# EAGLE library part 2199230-3 (library 2199230-3)
CONN FEMALE 67POS 0.020 GOLD
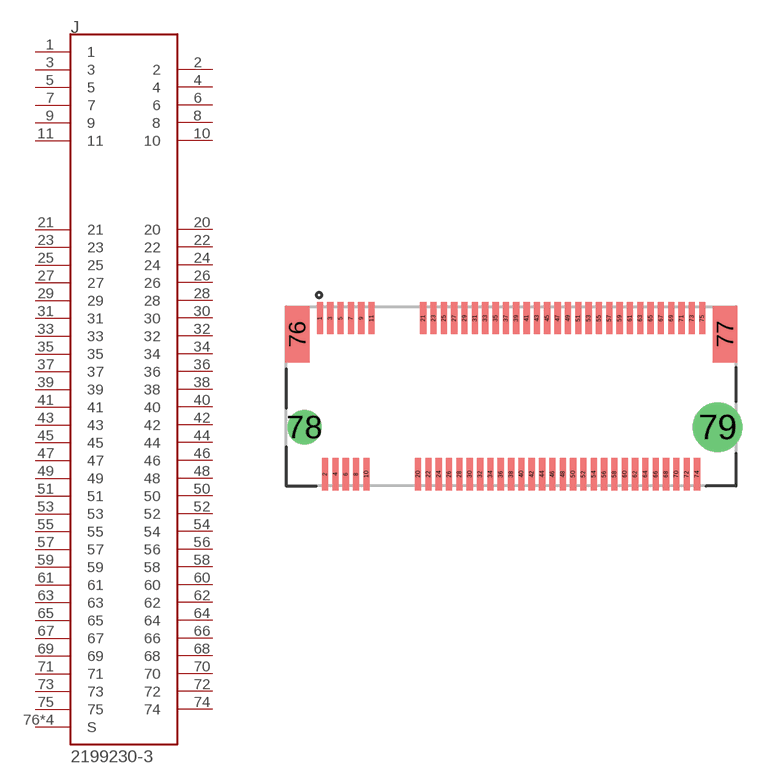
[diagram p0: symbol with the pads of TE_2199230-3; footprint TE_2199230-3]

Designator prefix J

## 2199230-3 (Availability: Unavailable; Centerline_Pitch: .5 mm[.0197 in]; Comment: 2199230-3; Description: M.2 0.5PITCH 4.2H KEY B 15U'' AU; EU_RoHS_Compliance: Compliant; MF: TE Connectivity; MP: 2199230-3; Number_of_Positions: 67; Package: None; Price: None; Product_Type: Socket; TE_purchase_URL: https://www.te.com/usa-en/product-2199230-3.html?te_bu=Cor&te_type=disp&te_campaign=seda_glo_cor-seda-global-disp-prtnr-fy19-seda-model-bom-cta_sma-317_1&elqCampaignId=32493)  [TE_2199230-3]
1  1  pas
2  2  pas
3  3  pas
4  4  pas
5  5  pas
6  6  pas
7  7  pas
8  8  pas
9  9  pas
10  10  pas
11  11  pas
20  20  pas
21  21  pas
22  22  pas
23  23  pas
24  24  pas
25  25  pas
26  26  pas
27  27  pas
28  28  pas
29  29  pas
30  30  pas
31  31  pas
32  32  pas
33  33  pas
34  34  pas
35  35  pas
36  36  pas
37  37  pas
38  38  pas
39  39  pas
40  40  pas
41  41  pas
42  42  pas
43  43  pas
44  44  pas
45  45  pas
46  46  pas
47  47  pas
48  48  pas
49  49  pas
50  50  pas
51  51  pas
52  52  pas
53  53  pas
54  54  pas
55  55  pas
56  56  pas
57  57  pas
58  58  pas
59  59  pas
60  60  pas
61  61  pas
62  62  pas
63  63  pas
64  64  pas
65  65  pas
66  66  pas
67  67  pas
68  68  pas
69  69  pas
70  70  pas
71  71  pas
72  72  pas
73  73  pas
74  74  pas
75  75  pas
76  S  pas
77  S  pas
78  S  pas
79  S  pas

## Footprint TE_2199230-3 (pad centres in mm)
smd 0.3 x 1.55: 1 -9.25,3.775; 2 -9,-3.775; 3 -8.75,3.775; 4 -8.5,-3.775; 5 -8.25,3.775; 6 -8,-3.775; 7 -7.75,3.775; 8 -7.5,-3.775; 9 -7.25,3.775; 10 -7,-3.775; 11 -6.75,3.775; 20 -4.5,-3.775; 21 -4.25,3.775; 22 -4,-3.775; 23 -3.75,3.775; 24 -3.5,-3.775; 25 -3.25,3.775; 26 -3,-3.775; 27 -2.75,3.775; 28 -2.5,-3.775; 29 -2.25,3.775; 30 -2,-3.775; 31 -1.75,3.775; 32 -1.5,-3.775; 33 -1.25,3.775; 34 -1,-3.775; 35 -0.75,3.775; 36 -0.5,-3.775; 37 -0.25,3.775; 38 0,-3.775; 39 0.25,3.775; 40 0.5,-3.775; 41 0.75,3.775; 42 1,-3.775; 43 1.25,3.775; 44 1.5,-3.775; 45 1.75,3.775; 46 2,-3.775; 47 2.25,3.775; 48 2.5,-3.775; 49 2.75,3.775; 50 3,-3.775; 51 3.25,3.775; 52 3.5,-3.775; 53 3.75,3.775; 54 4,-3.775; 55 4.25,3.775; 56 4.5,-3.775; 57 4.75,3.775; 58 5,-3.775; 59 5.25,3.775; 60 5.5,-3.775; 61 5.75,3.775; 62 6,-3.775; 63 6.25,3.775; 64 6.5,-3.775; 65 6.75,3.775; 66 7,-3.775; 67 7.25,3.775; 68 7.5,-3.775; 69 7.75,3.775; 70 8,-3.775; 71 8.25,3.775; 72 8.5,-3.775; 73 8.75,3.775; 74 9,-3.775; 75 9.25,3.775
smd 1.2 x 2.75: 76 -10.35,3; 77 10.35,3
drill 1.1: 78 -10,-1.5
drill 1.6: 79 10,-1.5